# Altium schematic symbol library SCH - ARM CORTEX - STM STM32L412K8Tx.SchLib: 1 symbol
Pins are listed as number, name and electrical type; pins without a type are passive.

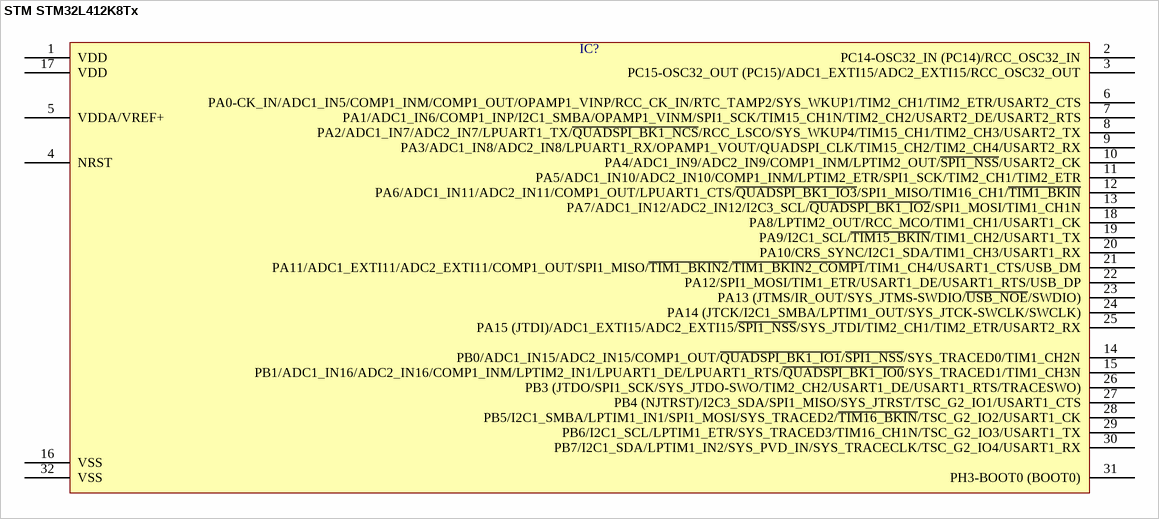
[diagram p0: symbol STM STM32L412K8Tx]

## STM STM32L412K8Tx
designator IC?  (value not drawn)
pins: 1 VDD, 2 PC14-OSC32_IN (PC14)/RCC_OSC32_IN, 3 PC15-OSC32_OUT (PC15)/ADC1_EXTI15/ADC2_EXTI15/RCC_OSC32_OUT, 4 NRST, 5 VDDA/VREF+, 6 PA0-CK_IN/ADC1_IN5/COMP1_INM/COMP1_OUT/OPAMP1_VINP/RCC_CK_IN/RTC_TAMP2/SYS_WKUP1/TIM2_CH1/TIM2_ETR/USART2_CTS, 7 PA1/ADC1_IN6/COMP1_INP/I2C1_SMBA/OPAMP1_VINM/SPI1_SCK/TIM15_CH1N/TIM2_CH2/USART2_DE/USART2_RTS, 8 PA2/ADC1_IN7/ADC2_IN7/LPUART1_TX/~{QUADSPI_BK1_NCS}/RCC_LSCO/SYS_WKUP4/TIM15_CH1/TIM2_CH3/USART2_TX, 9 PA3/ADC1_IN8/ADC2_IN8/LPUART1_RX/OPAMP1_VOUT/QUADSPI_CLK/TIM15_CH2/TIM2_CH4/USART2_RX, 10 PA4/ADC1_IN9/ADC2_IN9/COMP1_INM/LPTIM2_OUT/~{SPI1_NSS}/USART2_CK, 11 PA5/ADC1_IN10/ADC2_IN10/COMP1_INM/LPTIM2_ETR/SPI1_SCK/TIM2_CH1/TIM2_ETR, 12 PA6/ADC1_IN11/ADC2_IN11/COMP1_OUT/LPUART1_CTS/~{QUADSPI_BK1_IO3}/SPI1_MISO/TIM16_CH1/~{TIM1_BKIN}, 13 PA7/ADC1_IN12/ADC2_IN12/I2C3_SCL/~{QUADSPI_BK1_IO2}/SPI1_MOSI/TIM1_CH1N, 14 PB0/ADC1_IN15/ADC2_IN15/COMP1_OUT/~{QUADSPI_BK1_IO1}/~{SPI1_NSS}/SYS_TRACED0/TIM1_CH2N, 15 PB1/ADC1_IN16/ADC2_IN16/COMP1_INM/LPTIM2_IN1/LPUART1_DE/LPUART1_RTS/~{QUADSPI_BK1_IO0}/SYS_TRACED1/TIM1_CH3N, 16 VSS, 17 VDD, 18 PA8/LPTIM2_OUT/RCC_MCO/TIM1_CH1/USART1_CK, 19 PA9/I2C1_SCL/~{TIM15_BKIN}/TIM1_CH2/USART1_TX, 20 PA10/CRS_SYNC/I2C1_SDA/TIM1_CH3/USART1_RX, 21 PA11/ADC1_EXTI11/ADC2_EXTI11/COMP1_OUT/SPI1_MISO/~{TIM1_BKIN2}/~{TIM1_BKIN2_COMP1}/TIM1_CH4/USART1_CTS/USB_DM, 22 PA12/SPI1_MOSI/TIM1_ETR/USART1_DE/USART1_RTS/USB_DP, 23 PA13 (JTMS/IR_OUT/SYS_JTMS-SWDIO/~{USB_NOE}/SWDIO), 24 PA14 (JTCK/I2C1_SMBA/LPTIM1_OUT/SYS_JTCK-SWCLK/SWCLK), 25 PA15 (JTDI)/ADC1_EXTI15/ADC2_EXTI15/~{SPI1_NSS}/SYS_JTDI/TIM2_CH1/TIM2_ETR/USART2_RX, 26 PB3 (JTDO/SPI1_SCK/SYS_JTDO-SWO/TIM2_CH2/USART1_DE/USART1_RTS/TRACESWO), 27 PB4 (NJTRST)/I2C3_SDA/SPI1_MISO/SYS_JTRST/TSC_G2_IO1/USART1_CTS, 28 PB5/I2C1_SMBA/LPTIM1_IN1/SPI1_MOSI/SYS_TRACED2/~{TIM16_BKIN}/TSC_G2_IO2/USART1_CK, 29 PB6/I2C1_SCL/LPTIM1_ETR/SYS_TRACED3/TIM16_CH1N/TSC_G2_IO3/USART1_TX, 30 PB7/I2C1_SDA/LPTIM1_IN2/SYS_PVD_IN/SYS_TRACECLK/TSC_G2_IO4/USART1_RX, 31 PH3-BOOT0 (BOOT0), 32 VSS